# Altium footprint library SIHFR120GE3.PcbLib: 1 footprints
Each footprint in its own frame and in the unit in brackets; x right, y up, seen from the top. Pads: shape width x height; smd on the part's side, far side on the other; paste and mask are expansions set on the pad; w line width, h text height; cw(c..) or ccw(c..) is an arc to the next point about the centre after c.
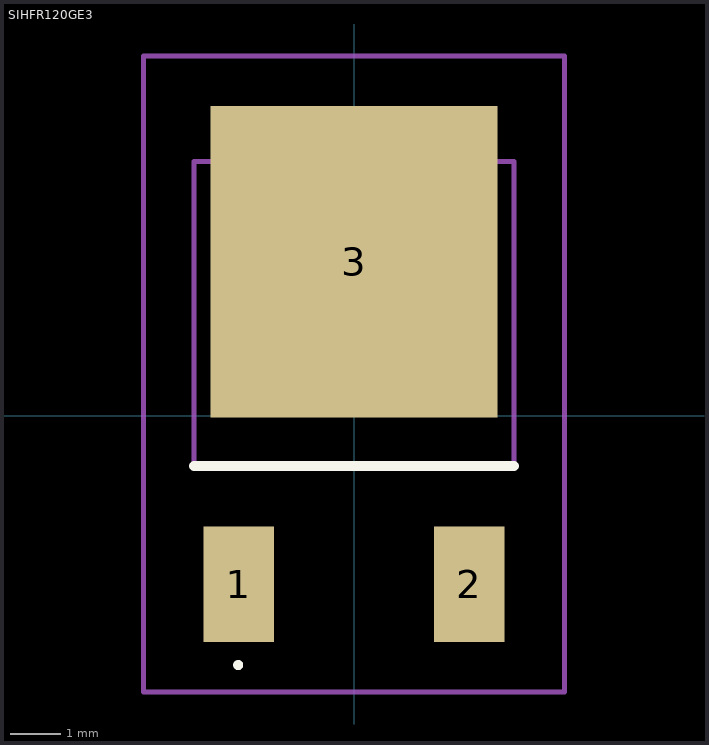
[diagram p0: the footprint, top view; thin cyan lines are the x and y axes]

## SIHFR120GE3 [mil]
pads (3):
  rect 55x90 smd: 1(-90,-131.69) 2(90,-131.69)
  rect 224.02x243.31 smd: 3(0,120.24)
Top Overlay:
  lines w3.94: -90.55,-196.85 cw(c-90.55,-194.88) -90.55,-192.91 ; -90.55,-196.85 -90.55,-196.85 ; -90.55,-196.85 ccw(c-90.55,-194.88) -90.55,-192.91 ; -90.55,-192.91 -90.55,-192.91
  lines w7.87: -125,-39.37 125,-39.37
Mechanical 15:
  lines w3.94: -125,-39.37 125,-39.37 125,198.82 -125,198.82 -125,-39.37
Mechanical 20:
  lines w3.94: -164.37,-216.06 164.37,-216.06 164.37,281.26 -164.37,281.26 -164.37,-216.06